# Altium footprint library LED_Indication_Discrete.PcbLib: 3 footprints
Each footprint in its own frame and in the unit in brackets; x right, y up, seen from the top. Pads: shape width x height; smd on the part's side, far side on the other; paste and mask are expansions set on the pad; w line width, h text height; cw(c..) or ccw(c..) is an arc to the next point about the centre after c.
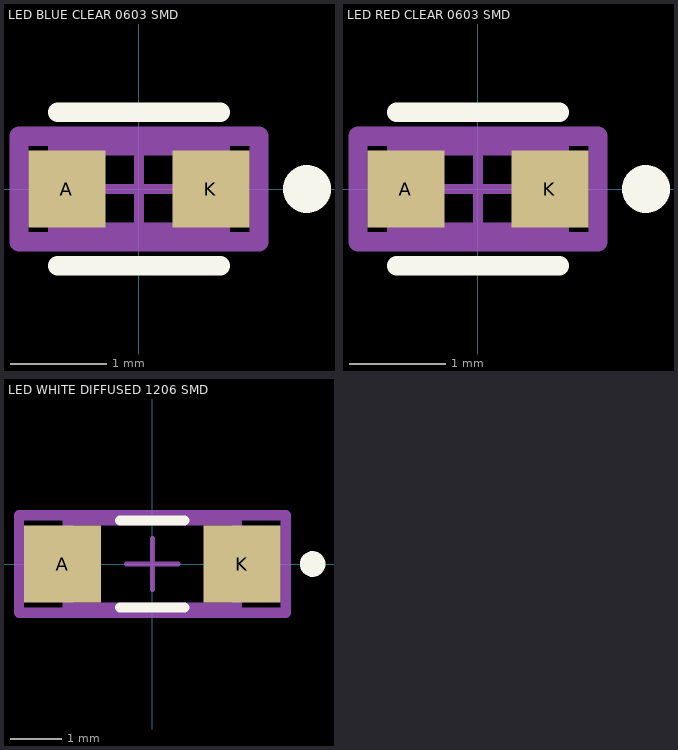
[diagram p0: the footprints below, top view; thin cyan lines are the x and y axes]

## LED BLUE CLEAR 0603 SMD [mm] "LED BLUE CLEAR 0603 SMD"
pads (2):
  rect 0.8x0.8 smd paste+0 mask+0: A(-0.75,0) K(0.75,0)
Top Overlay:
  circle w0.25: c1.75,0 r0.125
  lines w0.2: -0.85,-0.8 0.85,-0.8 ; -0.85,0.8 0.85,0.8
Top Assembly:
  lines w0.2: -1.25,-0.55 -1.25,0.55 1.25,0.55 1.25,-0.55 -1.25,-0.55
Top Component Center:
  lines w0.1: -0.5,0 0.5,0 ; 0,-0.5 0,0.5
Top Component Outline:
  lines w0.2: -0.85,-0.45 -0.85,0.45 0.85,0.45 0.85,-0.45 -0.85,-0.45
Top Courtyard:
  lines w0.2: -1.25,-0.55 1.25,-0.55 1.25,0.55 -1.25,0.55 -1.25,-0.55
Top Designator:
  text ".Designator" at -7.63,-0.521 h1.52
3D body "Diode_Lite-On_LTST-C191TBKT_eec.STEP": height 0.66, standoff 0.01, extent -0.8,-0.4 0.8,0.4

## LED RED CLEAR 0603 SMD [mm] "LED RED CLEAR 0603 SMD"
pads (2):
  rect 0.8x0.8 smd paste+0 mask+0: A(-0.75,0) K(0.75,0)
Top Overlay:
  circle w0.25: c1.75,0 r0.125
  lines w0.2: -0.85,-0.8 0.85,-0.8 ; -0.85,0.8 0.85,0.8
Top Assembly:
  lines w0.2: -1.25,-0.55 1.25,-0.55 1.25,0.55 -1.25,0.55 -1.25,-0.55
Top Component Center:
  lines w0.1: -0.5,0 0.5,0 ; 0,-0.5 0,0.5
Top Component Outline:
  lines w0.2: -0.85,-0.45 0.85,-0.45 0.85,0.45 -0.85,0.45 -0.85,-0.45
Top Courtyard:
  lines w0.2: -1.25,-0.55 -1.25,0.55 1.25,0.55 1.25,-0.55 -1.25,-0.55
Top Designator:
  text ".Designator" at -7.63,-0.521 h1.52
3D body "Diode_Lite-On_LTST-C190KRKT_eec.STEP": height 0.91, standoff 0.01, extent -0.8,-0.4 0.8,0.4

## LED WHITE DIFFUSED 1206 SMD [mm] "LED WHITE DIFFUSED 1206 SMD"
pads (2):
  rect 1.5x1.5 smd paste+0 mask+0: A(-1.75,0) K(1.75,0)
Top Overlay:
  circle w0.25: c3.125,0 r0.125
  lines w0.2: -0.625,-0.85 0.625,-0.85 ; -0.625,0.85 0.625,0.85
Top Assembly:
  lines w0.2: -2.6,-0.95 2.6,-0.95 2.6,0.95 -2.6,0.95 -2.6,-0.95
Top Component Center:
  lines w0.1: -0.5,0 0.5,0 ; 0,-0.5 0,0.5
Top Component Outline:
  lines w0.2: -1.65,-0.85 1.65,-0.85 1.65,0.85 -1.65,0.85 -1.65,-0.85
Top Courtyard:
  lines w0.2: -2.6,-0.95 -2.6,0.95 2.6,0.95 2.6,-0.95 -2.6,-0.95
Top Designator:
  text ".Designator" at -7.63,-0.521 h1.52
3D body "Diode_Avago_HSMS-C150_eec.STEP": height 1.12, standoff 0.01, extent -1.6,-0.8 1.6,0.8